# EAGLE library part MC14569BCPG (library ON Semiconductor_By_element14_Batch_1)
Programmable Divide-By-N Dual 4-Bit Binary/BCD Down Counter
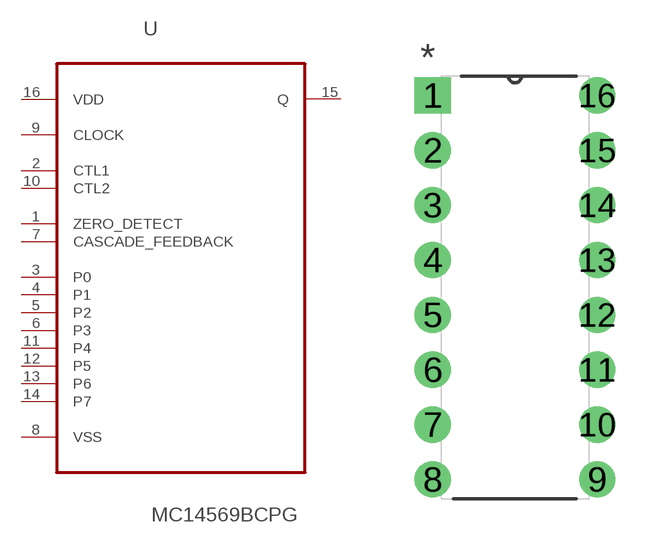
[diagram p305: symbol with the pads of DIP254P762X444-16; footprint DIP254P762X444-16]

Designator prefix U

## MC14569BCPG (MPN: MC14569BCPG; OC_FARNELL: 1191831; OC_NEWARK: 45J1136; PACKAGE: PDIP-16; SUPPLIER: ON SEMICONDUCTOR)  [DIP254P762X444-16]
1  ZERO_DETECT  in
2  CTL1  in
3  P0  in
4  P1  in
5  P2  in
6  P3  in
7  CASCADE_FEEDBACK  in
8  VSS  pas
9  CLOCK  in
10  CTL2  in
11  P4  in
12  P5  in
13  P6  in
14  P7  in
15  Q  out
16  VDD  pwr

## Footprint DIP254P762X444-16 (pad centres in mm)
drill 1.118 square: 1 -7.62,17.78
drill 1.118: 2 -7.62,15.24; 3 -7.62,12.7; 4 -7.62,10.16; 5 -7.62,7.62; 6 -7.62,5.08; 7 -7.62,2.54; 8 -7.62,0; 9 0,0; 10 0,2.54; 11 0,5.08; 12 0,7.62; 13 0,10.16; 14 0,12.7; 15 0,15.24; 16 0,17.78